# EAGLE library part WM8731CLSEFL (library circuit_tree)
IC
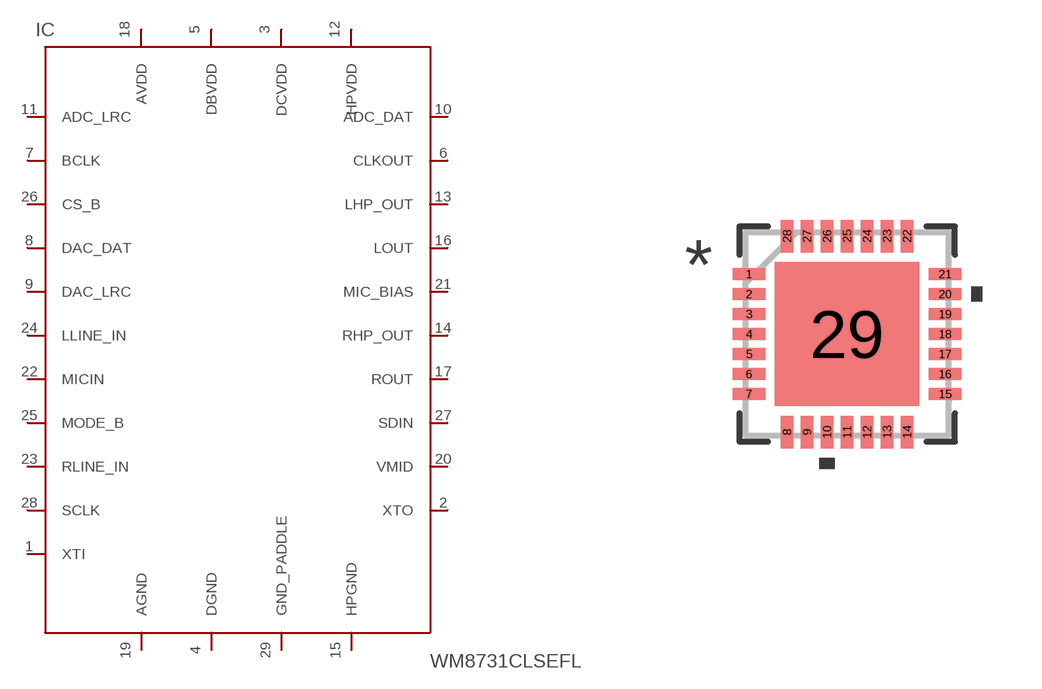
[diagram p8: symbol with the pads of QFN-28; footprint QFN-28]

Designator prefix IC

## WM8731CLSEFL  [QFN-28]
1  XTI  pas
2  XTO  pas
3  DCVDD  pas
4  DGND  pas
5  DBVDD  pas
6  CLKOUT  pas
7  BCLK  pas
8  DAC_DAT  pas
9  DAC_LRC  pas
10  ADC_DAT  pas
11  ADC_LRC  pas
12  HPVDD  pas
13  LHP_OUT  pas
14  RHP_OUT  pas
15  HPGND  pas
16  LOUT  pas
17  ROUT  pas
18  AVDD  pas
19  AGND  pas
20  VMID  pas
21  MIC_BIAS  pas
22  MICIN  pas
23  RLINE_IN  pas
24  LLINE_IN  pas
25  MODE_B  pas
26  CS_B  pas
27  SDIN  pas
28  SCLK  pas
29  GND_PADDLE  pas

## Footprint QFN-28 (pad centres in mm)
smd 0.813 x 0.305: 1 -2.451,1.5; 2 -2.451,1; 3 -2.451,0.5; 4 -2.451,0; 5 -2.451,-0.5; 6 -2.451,-1; 7 -2.451,-1.5; 15 2.451,-1.5; 16 2.451,-1; 17 2.451,-0.5; 18 2.451,0; 19 2.451,0.5; 20 2.451,1; 21 2.451,1.5
smd 0.305 x 0.813: 8 -1.5,-2.451; 9 -1,-2.451; 10 -0.5,-2.451; 11 0,-2.451; 12 0.5,-2.451; 13 1,-2.451; 14 1.5,-2.451; 22 1.5,2.451; 23 1,2.451; 24 0.5,2.451; 25 0,2.451; 26 -0.5,2.451; 27 -1,2.451; 28 -1.5,2.451
smd 3.607 x 3.607: 29 0,0